# EAGLE library part M25PE20 (library st-microelectronics)
FLASH MEMORY 2Mbit
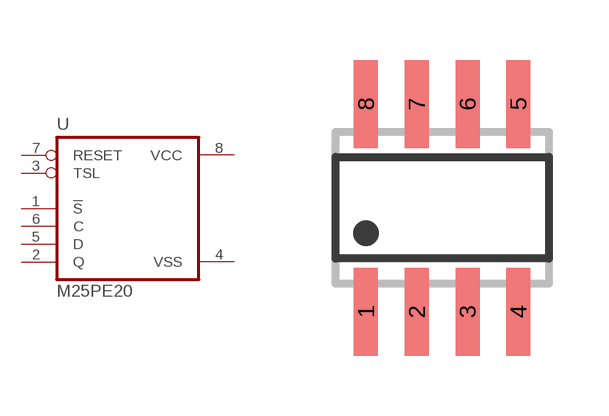
[diagram p34: symbol with the pads of SO08; footprint SO08]

Designator prefix U

## M25PE20  [SO08]
1  !S!  in
2  Q  out
3  TSL  in
4  VSS
5  D  in
6  C  in
7  RESET  in
8  VCC

## Footprint SO08 (pad centres in mm)
SMALL OUTLINE INTEGRATED CIRCUIT body 3.9 mm/JEDEC MS-012AA
smd 0.6 x 2.2: 1 -1.905,-2.6; 2 -0.635,-2.6; 3 0.635,-2.6; 4 1.905,-2.6; 5 1.905,2.6; 6 0.635,2.6; 7 -0.635,2.6; 8 -1.905,2.6